# Altium schematic symbol library Chip_kz85.SchLib: 319 symbols (part 3 of 5)
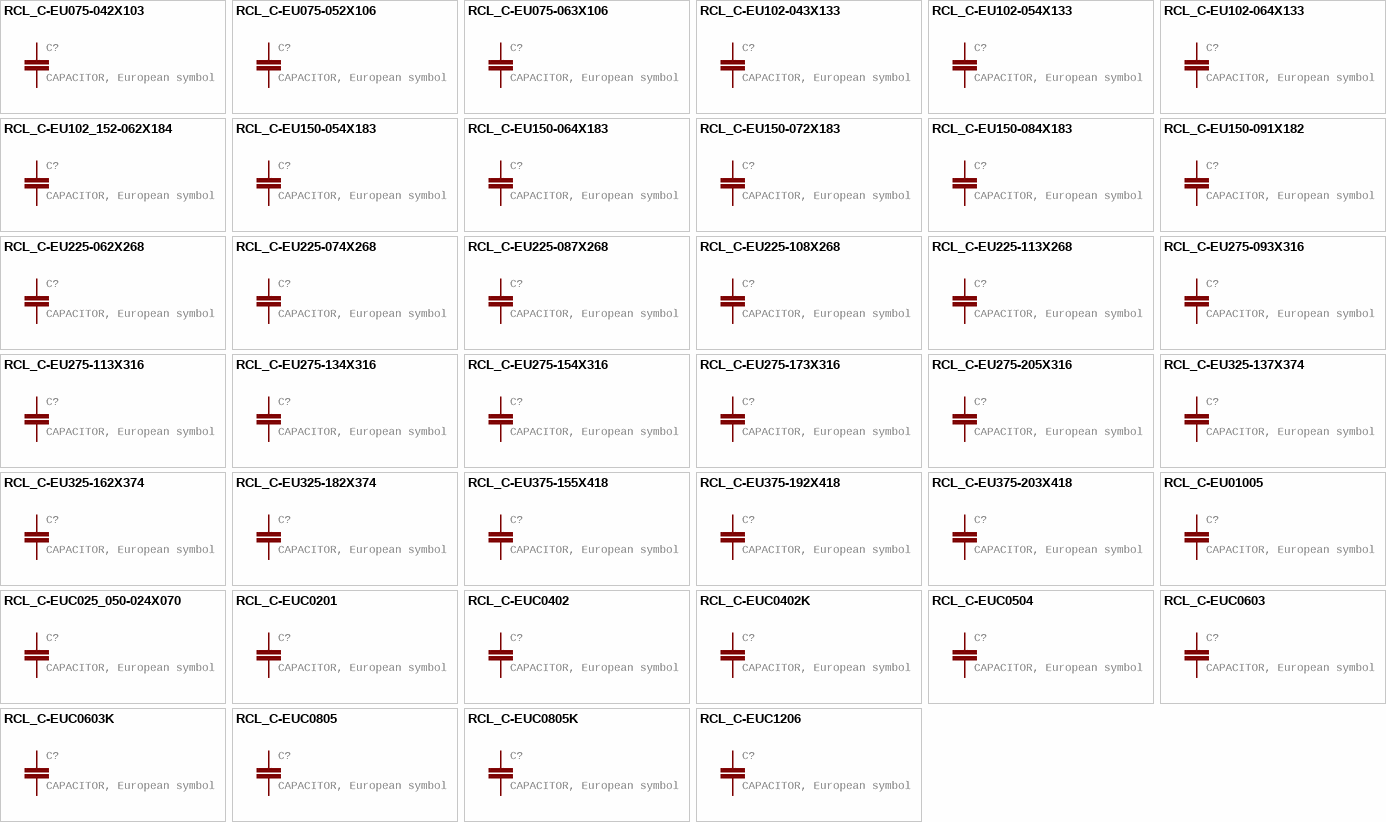
[diagram p13: symbols RCL_C-EU075-042X103 to RCL_C-EUC1206]

## RCL_C-EU325-137X374
designator C?, comment CAPACITOR, European symbol
GateName_1: G$1; SymbolName_1: RCL_C-EU; DeviceName: 325-137X374; LibraryName: AmbaSat-1v1-01-NO-solar; DeviceSetName: RCL_C-EU; Package: RCL_C325-137X374
footprint RCL_C325-137X374
pins: 1, 2

## RCL_C-EU325-162X374
designator C?, comment CAPACITOR, European symbol
GateName_1: G$1; SymbolName_1: RCL_C-EU; DeviceName: 325-162X374; LibraryName: AmbaSat-1v1-01-NO-solar; DeviceSetName: RCL_C-EU; Package: RCL_C325-162X374
footprint RCL_C325-162X374
pins: 1, 2

## RCL_C-EU325-182X374
designator C?, comment CAPACITOR, European symbol
GateName_1: G$1; SymbolName_1: RCL_C-EU; DeviceName: 325-182X374; LibraryName: AmbaSat-1v1-01-NO-solar; DeviceSetName: RCL_C-EU; Package: RCL_C325-182X374
footprint RCL_C325-182X374
pins: 1, 2

## RCL_C-EU375-155X418
designator C?, comment CAPACITOR, European symbol
GateName_1: G$1; SymbolName_1: RCL_C-EU; DeviceName: 375-155X418; LibraryName: AmbaSat-1v1-01-NO-solar; DeviceSetName: RCL_C-EU; Package: RCL_C375-155X418
footprint RCL_C375-155X418
pins: 1, 2

## RCL_C-EU375-192X418
designator C?, comment CAPACITOR, European symbol
GateName_1: G$1; SymbolName_1: RCL_C-EU; DeviceName: 375-192X418; LibraryName: AmbaSat-1v1-01-NO-solar; DeviceSetName: RCL_C-EU; Package: RCL_C375-192X418
footprint RCL_C375-192X418
pins: 1, 2

## RCL_C-EU375-203X418
designator C?, comment CAPACITOR, European symbol
GateName_1: G$1; SymbolName_1: RCL_C-EU; DeviceName: 375-203X418; LibraryName: AmbaSat-1v1-01-NO-solar; DeviceSetName: RCL_C-EU; Package: RCL_C375-203X418
footprint RCL_C375-203X418
pins: 1, 2

## RCL_C-EU01005
designator C?, comment CAPACITOR, European symbol
GateName_1: G$1; SymbolName_1: RCL_C-EU; DeviceName: 01005; LibraryName: AmbaSat-1v1-01-NO-solar; DeviceSetName: RCL_C-EU; Package: RCL_C01005
footprint RCL_C01005
pins: 1, 2

## RCL_C-EUC025_050-024X070
designator C?, comment CAPACITOR, European symbol
GateName_1: G$1; SymbolName_1: RCL_C-EU; DeviceName: C025_050-024X070; LibraryName: AmbaSat-1v1-01-NO-solar; DeviceSetName: RCL_C-EU; Package: RCL_C025_050-024X070
footprint RCL_C025_050-024X070
pins: 1, 2

## RCL_C-EUC0201
designator C?, comment CAPACITOR, European symbol
GateName_1: G$1; SymbolName_1: RCL_C-EU; DeviceName: C0201; LibraryName: AmbaSat-1v1-01-NO-solar; DeviceSetName: RCL_C-EU; Package: RCL_C0201
footprint RCL_C0201
pins: 1, 2

## RCL_C-EUC0402
designator C?, comment CAPACITOR, European symbol
GateName_1: G$1; SymbolName_1: RCL_C-EU; DeviceName: C0402; LibraryName: AmbaSat-1v1-01-NO-solar; DeviceSetName: RCL_C-EU; Package: RCL_C0402
footprint RCL_C0402
pins: 1, 2

## RCL_C-EUC0402K
designator C?, comment CAPACITOR, European symbol
GateName_1: G$1; SymbolName_1: RCL_C-EU; DeviceName: C0402K; LibraryName: AmbaSat-1v1-01-NO-solar; DeviceSetName: RCL_C-EU; Package: RCL_C0402K
footprint RCL_C0402K
pins: 1, 2

## RCL_C-EUC0504
designator C?, comment CAPACITOR, European symbol
GateName_1: G$1; SymbolName_1: RCL_C-EU; DeviceName: C0504; LibraryName: AmbaSat-1v1-01-NO-solar; DeviceSetName: RCL_C-EU; Package: RCL_C0504
footprint RCL_C0504
pins: 1, 2

## RCL_C-EUC0603
designator C?, comment CAPACITOR, European symbol
GateName_1: G$1; SymbolName_1: RCL_C-EU; DeviceName: C0603; LibraryName: AmbaSat-1v1-01-NO-solar; DeviceSetName: RCL_C-EU; Package: RCL_C0603
footprint RCL_C0603
pins: 1, 2

## RCL_C-EUC0603K
designator C?, comment CAPACITOR, European symbol
GateName_1: G$1; SymbolName_1: RCL_C-EU; DeviceName: C0603K; LibraryName: AmbaSat-1v1-01-NO-solar; DeviceSetName: RCL_C-EU; Package: RCL_C0603K
footprint RCL_C0603K
pins: 1, 2

## RCL_C-EUC0805
designator C?, comment CAPACITOR, European symbol
GateName_1: G$1; SymbolName_1: RCL_C-EU; DeviceName: C0805; LibraryName: AmbaSat-1v1-01-NO-solar; DeviceSetName: RCL_C-EU; Package: RCL_C0805
footprint RCL_C0805
pins: 1, 2

## RCL_C-EUC0805K
designator C?, comment CAPACITOR, European symbol
GateName_1: G$1; SymbolName_1: RCL_C-EU; DeviceName: C0805K; LibraryName: AmbaSat-1v1-01-NO-solar; DeviceSetName: RCL_C-EU; Package: RCL_C0805K
footprint RCL_C0805K
pins: 1, 2

## RCL_C-EUC1206
designator C?, comment CAPACITOR, European symbol
GateName_1: G$1; SymbolName_1: RCL_C-EU; DeviceName: C1206; LibraryName: AmbaSat-1v1-01-NO-solar; DeviceSetName: RCL_C-EU; Package: RCL_C1206
footprint RCL_C1206
pins: 1, 2

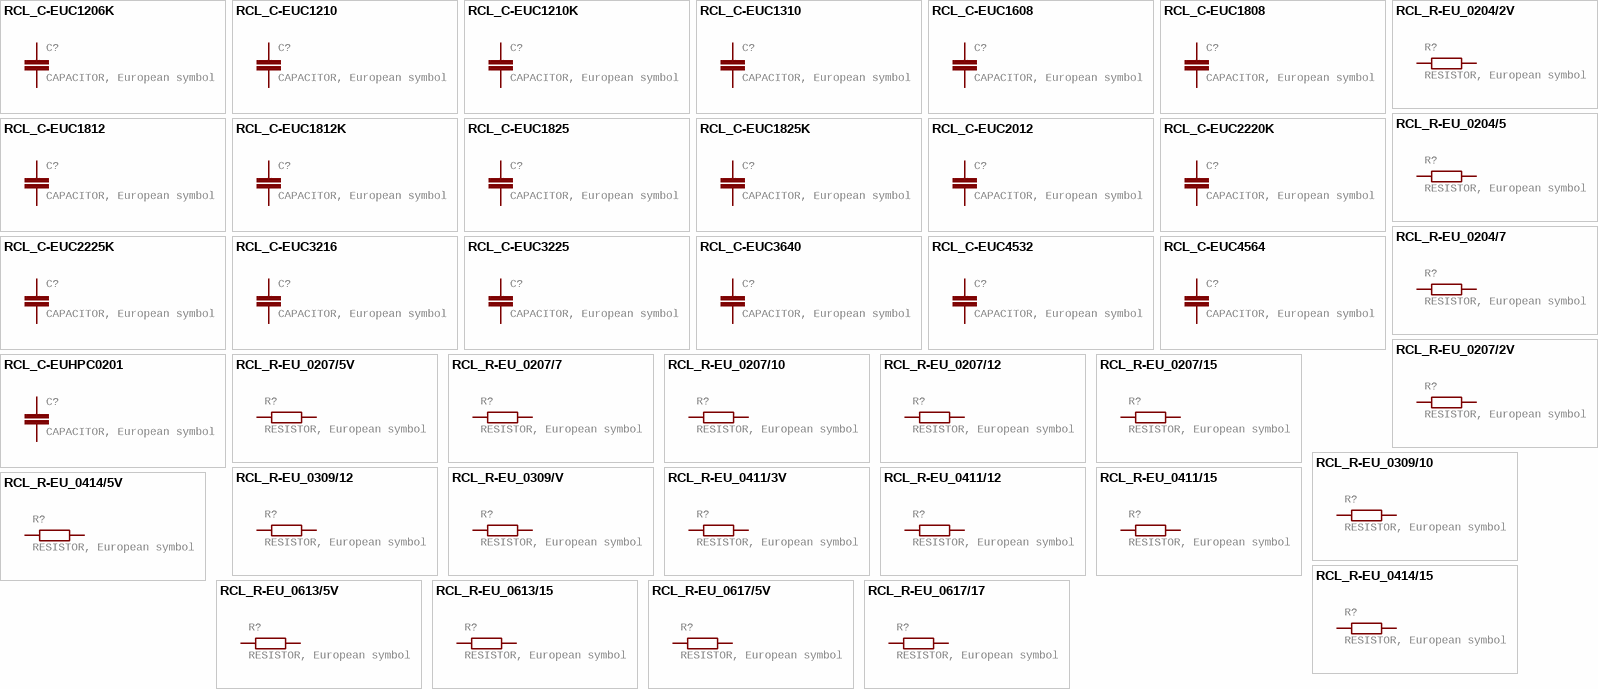
[diagram p5: symbols RCL_C-EUC1206K to RCL_R-EU_0617/17]

## RCL_C-EUC1206K
designator C?, comment CAPACITOR, European symbol
GateName_1: G$1; SymbolName_1: RCL_C-EU; DeviceName: C1206K; LibraryName: AmbaSat-1v1-01-NO-solar; DeviceSetName: RCL_C-EU; Package: RCL_C1206K
footprint RCL_C1206K
pins: 1, 2

## RCL_C-EUC1210
designator C?, comment CAPACITOR, European symbol
GateName_1: G$1; SymbolName_1: RCL_C-EU; DeviceName: C1210; LibraryName: AmbaSat-1v1-01-NO-solar; DeviceSetName: RCL_C-EU; Package: RCL_C1210
footprint RCL_C1210
pins: 1, 2

## RCL_C-EUC1210K
designator C?, comment CAPACITOR, European symbol
GateName_1: G$1; SymbolName_1: RCL_C-EU; DeviceName: C1210K; LibraryName: AmbaSat-1v1-01-NO-solar; DeviceSetName: RCL_C-EU; Package: RCL_C1210K
footprint RCL_C1210K
pins: 1, 2

## RCL_C-EUC1310
designator C?, comment CAPACITOR, European symbol
GateName_1: G$1; SymbolName_1: RCL_C-EU; DeviceName: C1310; LibraryName: AmbaSat-1v1-01-NO-solar; DeviceSetName: RCL_C-EU; Package: RCL_C1310
footprint RCL_C1310
pins: 1, 2

## RCL_C-EUC1608
designator C?, comment CAPACITOR, European symbol
GateName_1: G$1; SymbolName_1: RCL_C-EU; DeviceName: C1608; LibraryName: AmbaSat-1v1-01-NO-solar; DeviceSetName: RCL_C-EU; Package: RCL_C1608
footprint RCL_C1608
pins: 1, 2

## RCL_C-EUC1808
designator C?, comment CAPACITOR, European symbol
GateName_1: G$1; SymbolName_1: RCL_C-EU; DeviceName: C1808; LibraryName: AmbaSat-1v1-01-NO-solar; DeviceSetName: RCL_C-EU; Package: RCL_C1808
footprint RCL_C1808
pins: 1, 2

## RCL_C-EUC1812
designator C?, comment CAPACITOR, European symbol
GateName_1: G$1; SymbolName_1: RCL_C-EU; DeviceName: C1812; LibraryName: AmbaSat-1v1-01-NO-solar; DeviceSetName: RCL_C-EU; Package: RCL_C1812
footprint RCL_C1812
pins: 1, 2

## RCL_C-EUC1812K
designator C?, comment CAPACITOR, European symbol
GateName_1: G$1; SymbolName_1: RCL_C-EU; DeviceName: C1812K; LibraryName: AmbaSat-1v1-01-NO-solar; DeviceSetName: RCL_C-EU; Package: RCL_C1812K
footprint RCL_C1812K
pins: 1, 2

## RCL_C-EUC1825
designator C?, comment CAPACITOR, European symbol
GateName_1: G$1; SymbolName_1: RCL_C-EU; DeviceName: C1825; LibraryName: AmbaSat-1v1-01-NO-solar; DeviceSetName: RCL_C-EU; Package: RCL_C1825
footprint RCL_C1825
pins: 1, 2

## RCL_C-EUC1825K
designator C?, comment CAPACITOR, European symbol
GateName_1: G$1; SymbolName_1: RCL_C-EU; DeviceName: C1825K; LibraryName: AmbaSat-1v1-01-NO-solar; DeviceSetName: RCL_C-EU; Package: RCL_C1825K
footprint RCL_C1825K
pins: 1, 2

## RCL_C-EUC2012
designator C?, comment CAPACITOR, European symbol
GateName_1: G$1; SymbolName_1: RCL_C-EU; DeviceName: C2012; LibraryName: AmbaSat-1v1-01-NO-solar; DeviceSetName: RCL_C-EU; Package: RCL_C2012
footprint RCL_C2012
pins: 1, 2

## RCL_C-EUC2220K
designator C?, comment CAPACITOR, European symbol
GateName_1: G$1; SymbolName_1: RCL_C-EU; DeviceName: C2220K; LibraryName: AmbaSat-1v1-01-NO-solar; DeviceSetName: RCL_C-EU; Package: RCL_C2220K
footprint RCL_C2220K
pins: 1, 2

## RCL_C-EUC2225K
designator C?, comment CAPACITOR, European symbol
GateName_1: G$1; SymbolName_1: RCL_C-EU; DeviceName: C2225K; LibraryName: AmbaSat-1v1-01-NO-solar; DeviceSetName: RCL_C-EU; Package: RCL_C2225K
footprint RCL_C2225K
pins: 1, 2

## RCL_C-EUC3216
designator C?, comment CAPACITOR, European symbol
GateName_1: G$1; SymbolName_1: RCL_C-EU; DeviceName: C3216; LibraryName: AmbaSat-1v1-01-NO-solar; DeviceSetName: RCL_C-EU; Package: RCL_C3216
footprint RCL_C3216
pins: 1, 2

## RCL_C-EUC3225
designator C?, comment CAPACITOR, European symbol
GateName_1: G$1; SymbolName_1: RCL_C-EU; DeviceName: C3225; LibraryName: AmbaSat-1v1-01-NO-solar; DeviceSetName: RCL_C-EU; Package: RCL_C3225
footprint RCL_C3225
pins: 1, 2

## RCL_C-EUC3640
designator C?, comment CAPACITOR, European symbol
GateName_1: G$1; SymbolName_1: RCL_C-EU; DeviceName: C3640; LibraryName: AmbaSat-1v1-01-NO-solar; DeviceSetName: RCL_C-EU; Package: RCL_C3640
footprint RCL_C3640
pins: 1, 2

## RCL_C-EUC4532
designator C?, comment CAPACITOR, European symbol
GateName_1: G$1; SymbolName_1: RCL_C-EU; DeviceName: C4532; LibraryName: AmbaSat-1v1-01-NO-solar; DeviceSetName: RCL_C-EU; Package: RCL_C4532
footprint RCL_C4532
pins: 1, 2

## RCL_C-EUC4564
designator C?, comment CAPACITOR, European symbol
GateName_1: G$1; SymbolName_1: RCL_C-EU; DeviceName: C4564; LibraryName: AmbaSat-1v1-01-NO-solar; DeviceSetName: RCL_C-EU; Package: RCL_C4564
footprint RCL_C4564
pins: 1, 2

## RCL_C-EUHPC0201
designator C?, comment CAPACITOR, European symbol
GateName_1: G$1; SymbolName_1: RCL_C-EU; DeviceName: HPC0201; LibraryName: AmbaSat-1v1-01-NO-solar; DeviceSetName: RCL_C-EU; Package: RCL_HPC0201
footprint RCL_HPC0201
pins: 1, 2

## RCL_R-EU_0204/2V
designator R?, comment RESISTOR, European symbol
GateName_1: G$1; SymbolName_1: RCL_R-EU; DeviceName: 0204/2V; DeviceSetName: RCL_R-EU_; LibraryName: AmbaSat-1v1-01-NO-solar; Package: RCL_0204V
footprint RCL_0204V
pins: 1, 2

## RCL_R-EU_0204/5
designator R?, comment RESISTOR, European symbol
GateName_1: G$1; SymbolName_1: RCL_R-EU; DeviceName: 0204/5; DeviceSetName: RCL_R-EU_; LibraryName: AmbaSat-1v1-01-NO-solar; Package: RCL_0204/5
footprint RCL_0204/5
pins: 1, 2

## RCL_R-EU_0204/7
designator R?, comment RESISTOR, European symbol
GateName_1: G$1; SymbolName_1: RCL_R-EU; DeviceName: 0204/7; DeviceSetName: RCL_R-EU_; LibraryName: AmbaSat-1v1-01-NO-solar; Package: RCL_0204/7
footprint RCL_0204/7
pins: 1, 2

## RCL_R-EU_0207/2V
designator R?, comment RESISTOR, European symbol
GateName_1: G$1; SymbolName_1: RCL_R-EU; DeviceName: 0207/2V; DeviceSetName: RCL_R-EU_; LibraryName: AmbaSat-1v1-01-NO-solar; Package: RCL_0207/2V
footprint RCL_0207/2V
pins: 1, 2

## RCL_R-EU_0207/5V
designator R?, comment RESISTOR, European symbol
GateName_1: G$1; SymbolName_1: RCL_R-EU; DeviceName: 0207/5V; DeviceSetName: RCL_R-EU_; LibraryName: AmbaSat-1v1-01-NO-solar; Package: RCL_0207/5V
footprint RCL_0207/5V
pins: 1, 2

## RCL_R-EU_0207/7
designator R?, comment RESISTOR, European symbol
GateName_1: G$1; SymbolName_1: RCL_R-EU; DeviceName: 0207/7; DeviceSetName: RCL_R-EU_; LibraryName: AmbaSat-1v1-01-NO-solar; Package: RCL_0207/7
footprint RCL_0207/7
pins: 1, 2

## RCL_R-EU_0207/10
designator R?, comment RESISTOR, European symbol
GateName_1: G$1; SymbolName_1: RCL_R-EU; DeviceName: 0207/10; DeviceSetName: RCL_R-EU_; LibraryName: AmbaSat-1v1-01-NO-solar; Package: RCL_0207/10
footprint RCL_0207/10
pins: 1, 2

## RCL_R-EU_0207/12
designator R?, comment RESISTOR, European symbol
GateName_1: G$1; SymbolName_1: RCL_R-EU; DeviceName: 0207/12; DeviceSetName: RCL_R-EU_; LibraryName: AmbaSat-1v1-01-NO-solar; Package: RCL_0207/12
footprint RCL_0207/12
pins: 1, 2

## RCL_R-EU_0207/15
designator R?, comment RESISTOR, European symbol
GateName_1: G$1; SymbolName_1: RCL_R-EU; DeviceName: 0207/15; DeviceSetName: RCL_R-EU_; LibraryName: AmbaSat-1v1-01-NO-solar; Package: RCL_0207/15
footprint RCL_0207/15
pins: 1, 2

## RCL_R-EU_0309/10
designator R?, comment RESISTOR, European symbol
GateName_1: G$1; SymbolName_1: RCL_R-EU; DeviceName: 0309/10; DeviceSetName: RCL_R-EU_; LibraryName: AmbaSat-1v1-01-NO-solar; Package: RCL_0309/10
footprint RCL_0309/10
pins: 1, 2

## RCL_R-EU_0309/12
designator R?, comment RESISTOR, European symbol
GateName_1: G$1; SymbolName_1: RCL_R-EU; DeviceName: 0309/12; DeviceSetName: RCL_R-EU_; LibraryName: AmbaSat-1v1-01-NO-solar; Package: RCL_0309/12
footprint RCL_0309/12
pins: 1, 2

## RCL_R-EU_0309/V
designator R?, comment RESISTOR, European symbol
GateName_1: G$1; SymbolName_1: RCL_R-EU; DeviceName: 0309/V; DeviceSetName: RCL_R-EU_; LibraryName: AmbaSat-1v1-01-NO-solar; Package: RCL_0309V
footprint RCL_0309V
pins: 1, 2

## RCL_R-EU_0411/3V
designator R?, comment RESISTOR, European symbol
GateName_1: G$1; SymbolName_1: RCL_R-EU; DeviceName: 0411/3V; DeviceSetName: RCL_R-EU_; LibraryName: AmbaSat-1v1-01-NO-solar; Package: RCL_0411V
footprint RCL_0411V
pins: 1, 2

## RCL_R-EU_0411/12
designator R?, comment RESISTOR, European symbol
GateName_1: G$1; SymbolName_1: RCL_R-EU; DeviceName: 0411/12; DeviceSetName: RCL_R-EU_; LibraryName: AmbaSat-1v1-01-NO-solar; Package: RCL_0411/12
footprint RCL_0411/12
pins: 1, 2

## RCL_R-EU_0411/15
designator R?, comment RESISTOR, European symbol
GateName_1: G$1; SymbolName_1: RCL_R-EU; DeviceName: 0411/15; DeviceSetName: RCL_R-EU_; LibraryName: AmbaSat-1v1-01-NO-solar; Package: RCL_0411/15
footprint RCL_0411/15
pins: 1, 2

## RCL_R-EU_0414/5V
designator R?, comment RESISTOR, European symbol
GateName_1: G$1; SymbolName_1: RCL_R-EU; DeviceName: 0414/5V; DeviceSetName: RCL_R-EU_; LibraryName: AmbaSat-1v1-01-NO-solar; Package: RCL_0414V
footprint RCL_0414V
pins: 1, 2

## RCL_R-EU_0414/15
designator R?, comment RESISTOR, European symbol
GateName_1: G$1; SymbolName_1: RCL_R-EU; DeviceName: 0414/15; DeviceSetName: RCL_R-EU_; LibraryName: AmbaSat-1v1-01-NO-solar; Package: RCL_0414/15
footprint RCL_0414/15
pins: 1, 2

## RCL_R-EU_0613/5V
designator R?, comment RESISTOR, European symbol
GateName_1: G$1; SymbolName_1: RCL_R-EU; DeviceName: 0613/5V; DeviceSetName: RCL_R-EU_; LibraryName: AmbaSat-1v1-01-NO-solar; Package: RCL_P0613V
footprint RCL_P0613V
pins: 1, 2

## RCL_R-EU_0613/15
designator R?, comment RESISTOR, European symbol
GateName_1: G$1; SymbolName_1: RCL_R-EU; DeviceName: 0613/15; DeviceSetName: RCL_R-EU_; LibraryName: AmbaSat-1v1-01-NO-solar; Package: RCL_P0613/15
footprint RCL_P0613/15
pins: 1, 2

## RCL_R-EU_0617/5V
designator R?, comment RESISTOR, European symbol
GateName_1: G$1; SymbolName_1: RCL_R-EU; DeviceName: 0617/5V; DeviceSetName: RCL_R-EU_; LibraryName: AmbaSat-1v1-01-NO-solar; Package: RCL_0617V
footprint RCL_0617V
pins: 1, 2

## RCL_R-EU_0617/17
designator R?, comment RESISTOR, European symbol
GateName_1: G$1; SymbolName_1: RCL_R-EU; DeviceName: 0617/17; DeviceSetName: RCL_R-EU_; LibraryName: AmbaSat-1v1-01-NO-solar; Package: RCL_0617/17
footprint RCL_0617/17
pins: 1, 2

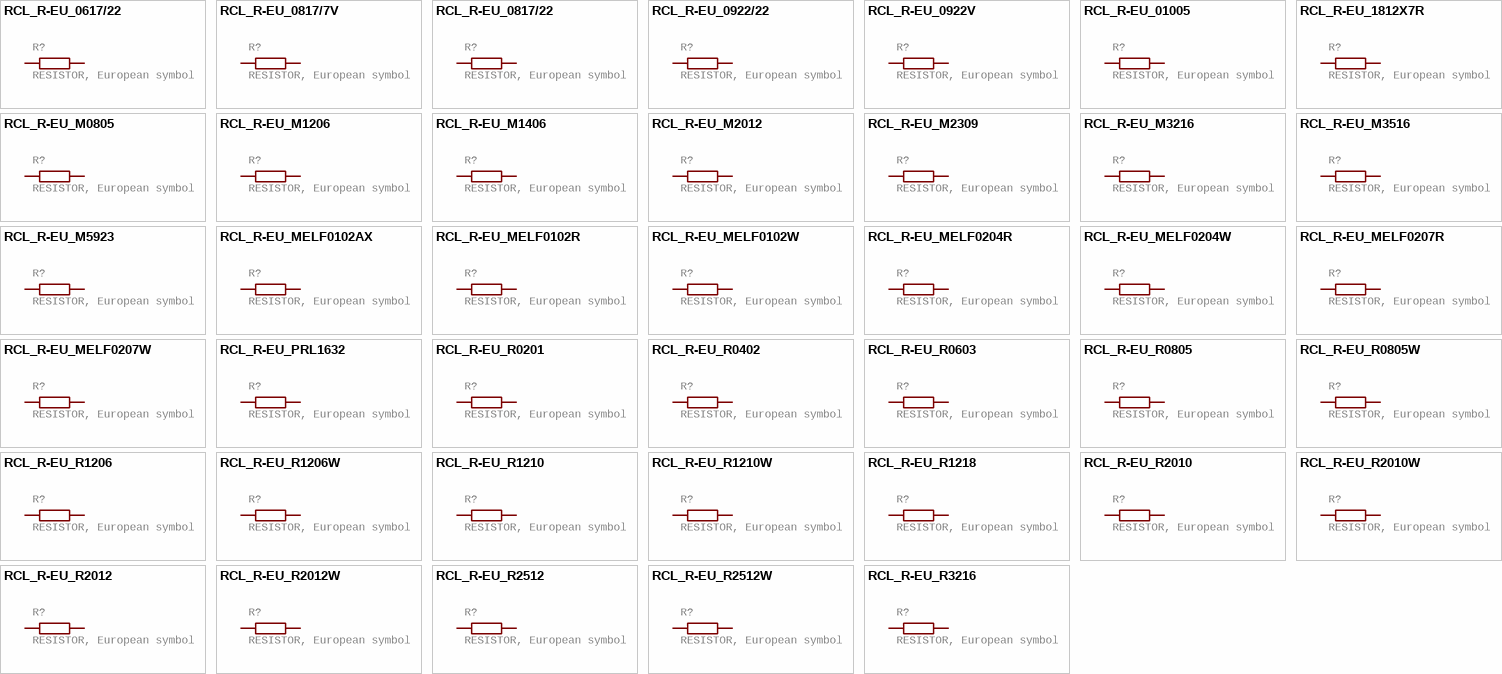
[diagram p6: symbols RCL_R-EU_0617/22 to RCL_R-EU_R3216]

## RCL_R-EU_0617/22
designator R?, comment RESISTOR, European symbol
GateName_1: G$1; SymbolName_1: RCL_R-EU; DeviceName: 0617/22; DeviceSetName: RCL_R-EU_; LibraryName: AmbaSat-1v1-01-NO-solar; Package: RCL_0617/22
footprint RCL_0617/22
pins: 1, 2

## RCL_R-EU_0817/7V
designator R?, comment RESISTOR, European symbol
GateName_1: G$1; SymbolName_1: RCL_R-EU; DeviceName: 0817/7V; DeviceSetName: RCL_R-EU_; LibraryName: AmbaSat-1v1-01-NO-solar; Package: RCL_P0817V
footprint RCL_P0817V
pins: 1, 2

## RCL_R-EU_0817/22
designator R?, comment RESISTOR, European symbol
GateName_1: G$1; SymbolName_1: RCL_R-EU; DeviceName: 0817/22; DeviceSetName: RCL_R-EU_; LibraryName: AmbaSat-1v1-01-NO-solar; Package: RCL_P0817/22
footprint RCL_P0817/22
pins: 1, 2

## RCL_R-EU_0922/22
designator R?, comment RESISTOR, European symbol
GateName_1: G$1; SymbolName_1: RCL_R-EU; DeviceName: 0922/22; DeviceSetName: RCL_R-EU_; LibraryName: AmbaSat-1v1-01-NO-solar; Package: RCL_0922/22
footprint RCL_0922/22
pins: 1, 2

## RCL_R-EU_0922V
designator R?, comment RESISTOR, European symbol
GateName_1: G$1; SymbolName_1: RCL_R-EU; DeviceName: 0922V; DeviceSetName: RCL_R-EU_; LibraryName: AmbaSat-1v1-01-NO-solar; Package: RCL_0922V
footprint RCL_0922V
pins: 1, 2

## RCL_R-EU_01005
designator R?, comment RESISTOR, European symbol
GateName_1: G$1; SymbolName_1: RCL_R-EU; DeviceName: 01005; DeviceSetName: RCL_R-EU_; LibraryName: AmbaSat-1v1-01-NO-solar; Package: RCL_R01005
footprint RCL_R01005
pins: 1, 2

## RCL_R-EU_1812X7R
designator R?, comment RESISTOR, European symbol
GateName_1: G$1; SymbolName_1: RCL_R-EU; DeviceName: 1812X7R; DeviceSetName: RCL_R-EU_; LibraryName: AmbaSat-1v1-01-NO-solar; Package: RCL_1812X7R
footprint RCL_1812X7R
pins: 1, 2

## RCL_R-EU_M0805
designator R?, comment RESISTOR, European symbol
GateName_1: G$1; SymbolName_1: RCL_R-EU; DeviceName: M0805; DeviceSetName: RCL_R-EU_; LibraryName: AmbaSat-1v1-01-NO-solar; Package: RCL_M0805
footprint RCL_M0805
pins: 1, 2

## RCL_R-EU_M1206
designator R?, comment RESISTOR, European symbol
GateName_1: G$1; SymbolName_1: RCL_R-EU; DeviceName: M1206; DeviceSetName: RCL_R-EU_; LibraryName: AmbaSat-1v1-01-NO-solar; Package: RCL_M1206
footprint RCL_M1206
pins: 1, 2

## RCL_R-EU_M1406
designator R?, comment RESISTOR, European symbol
GateName_1: G$1; SymbolName_1: RCL_R-EU; DeviceName: M1406; DeviceSetName: RCL_R-EU_; LibraryName: AmbaSat-1v1-01-NO-solar; Package: RCL_M1406
footprint RCL_M1406
pins: 1, 2

## RCL_R-EU_M2012
designator R?, comment RESISTOR, European symbol
GateName_1: G$1; SymbolName_1: RCL_R-EU; DeviceName: M2012; DeviceSetName: RCL_R-EU_; LibraryName: AmbaSat-1v1-01-NO-solar; Package: RCL_M2012
footprint RCL_M2012
pins: 1, 2

## RCL_R-EU_M2309
designator R?, comment RESISTOR, European symbol
GateName_1: G$1; SymbolName_1: RCL_R-EU; DeviceName: M2309; DeviceSetName: RCL_R-EU_; LibraryName: AmbaSat-1v1-01-NO-solar; Package: RCL_M2309
footprint RCL_M2309
pins: 1, 2

## RCL_R-EU_M3216
designator R?, comment RESISTOR, European symbol
GateName_1: G$1; SymbolName_1: RCL_R-EU; DeviceName: M3216; DeviceSetName: RCL_R-EU_; LibraryName: AmbaSat-1v1-01-NO-solar; Package: RCL_M3216
footprint RCL_M3216
pins: 1, 2

## RCL_R-EU_M3516
designator R?, comment RESISTOR, European symbol
GateName_1: G$1; SymbolName_1: RCL_R-EU; DeviceName: M3516; DeviceSetName: RCL_R-EU_; LibraryName: AmbaSat-1v1-01-NO-solar; Package: RCL_M3516
footprint RCL_M3516
pins: 1, 2

## RCL_R-EU_M5923
designator R?, comment RESISTOR, European symbol
GateName_1: G$1; SymbolName_1: RCL_R-EU; DeviceName: M5923; DeviceSetName: RCL_R-EU_; LibraryName: AmbaSat-1v1-01-NO-solar; Package: RCL_M5923
footprint RCL_M5923
pins: 1, 2

## RCL_R-EU_MELF0102AX
designator R?, comment RESISTOR, European symbol
GateName_1: G$1; SymbolName_1: RCL_R-EU; DeviceName: MELF0102AX; DeviceSetName: RCL_R-EU_; LibraryName: AmbaSat-1v1-01-NO-solar; Package: RCL_MINI_MELF-0102AX
footprint RCL_MINI_MELF-0102AX
pins: 1, 2

## RCL_R-EU_MELF0102R
designator R?, comment RESISTOR, European symbol
GateName_1: G$1; SymbolName_1: RCL_R-EU; DeviceName: MELF0102R; DeviceSetName: RCL_R-EU_; LibraryName: AmbaSat-1v1-01-NO-solar; Package: RCL_MINI_MELF-0102R
footprint RCL_MINI_MELF-0102R
pins: 1, 2

## RCL_R-EU_MELF0102W
designator R?, comment RESISTOR, European symbol
GateName_1: G$1; SymbolName_1: RCL_R-EU; DeviceName: MELF0102W; DeviceSetName: RCL_R-EU_; LibraryName: AmbaSat-1v1-01-NO-solar; Package: RCL_MINI_MELF-0102W
footprint RCL_MINI_MELF-0102W
pins: 1, 2

## RCL_R-EU_MELF0204R
designator R?, comment RESISTOR, European symbol
GateName_1: G$1; SymbolName_1: RCL_R-EU; DeviceName: MELF0204R; DeviceSetName: RCL_R-EU_; LibraryName: AmbaSat-1v1-01-NO-solar; Package: RCL_MINI_MELF-0204R
footprint RCL_MINI_MELF-0204R
pins: 1, 2

## RCL_R-EU_MELF0204W
designator R?, comment RESISTOR, European symbol
GateName_1: G$1; SymbolName_1: RCL_R-EU; DeviceName: MELF0204W; DeviceSetName: RCL_R-EU_; LibraryName: AmbaSat-1v1-01-NO-solar; Package: RCL_MINI_MELF-0204W
footprint RCL_MINI_MELF-0204W
pins: 1, 2

## RCL_R-EU_MELF0207R
designator R?, comment RESISTOR, European symbol
GateName_1: G$1; SymbolName_1: RCL_R-EU; DeviceName: MELF0207R; DeviceSetName: RCL_R-EU_; LibraryName: AmbaSat-1v1-01-NO-solar; Package: RCL_MINI_MELF-0207R
footprint RCL_MINI_MELF-0207R
pins: 1, 2

## RCL_R-EU_MELF0207W
designator R?, comment RESISTOR, European symbol
GateName_1: G$1; SymbolName_1: RCL_R-EU; DeviceName: MELF0207W; DeviceSetName: RCL_R-EU_; LibraryName: AmbaSat-1v1-01-NO-solar; Package: RCL_MINI_MELF-0207W
footprint RCL_MINI_MELF-0207W
pins: 1, 2

## RCL_R-EU_PRL1632
designator R?, comment RESISTOR, European symbol
GateName_1: G$1; SymbolName_1: RCL_R-EU; DeviceName: PRL1632; DeviceSetName: RCL_R-EU_; LibraryName: AmbaSat-1v1-01-NO-solar; Package: RCL_PRL1632
footprint RCL_PRL1632
pins: 1, 2

## RCL_R-EU_R0201
designator R?, comment RESISTOR, European symbol
GateName_1: G$1; SymbolName_1: RCL_R-EU; DeviceName: R0201; DeviceSetName: RCL_R-EU_; LibraryName: AmbaSat-1v1-01-NO-solar; Package: RCL_R0201
footprint RCL_R0201
pins: 1, 2

## RCL_R-EU_R0402
designator R?, comment RESISTOR, European symbol
GateName_1: G$1; SymbolName_1: RCL_R-EU; DeviceName: R0402; DeviceSetName: RCL_R-EU_; LibraryName: AmbaSat-1v1-01-NO-solar; Package: RCL_R0402
footprint RCL_R0402
pins: 1, 2

## RCL_R-EU_R0603
designator R?, comment RESISTOR, European symbol
GateName_1: G$1; SymbolName_1: RCL_R-EU; DeviceName: R0603; DeviceSetName: RCL_R-EU_; LibraryName: AmbaSat-1v1-01-NO-solar; Package: RCL_R0603
footprint RCL_R0603
pins: 1, 2

## RCL_R-EU_R0805
designator R?, comment RESISTOR, European symbol
GateName_1: G$1; SymbolName_1: RCL_R-EU; DeviceName: R0805; DeviceSetName: RCL_R-EU_; LibraryName: AmbaSat-1v1-01-NO-solar; Package: RCL_R0805
footprint RCL_R0805
pins: 1, 2

## RCL_R-EU_R0805W
designator R?, comment RESISTOR, European symbol
GateName_1: G$1; SymbolName_1: RCL_R-EU; DeviceName: R0805W; DeviceSetName: RCL_R-EU_; LibraryName: AmbaSat-1v1-01-NO-solar; Package: RCL_R0805W
footprint RCL_R0805W
pins: 1, 2

## RCL_R-EU_R1206
designator R?, comment RESISTOR, European symbol
GateName_1: G$1; SymbolName_1: RCL_R-EU; DeviceName: R1206; DeviceSetName: RCL_R-EU_; LibraryName: AmbaSat-1v1-01-NO-solar; Package: RCL_R1206
footprint RCL_R1206
pins: 1, 2

## RCL_R-EU_R1206W
designator R?, comment RESISTOR, European symbol
GateName_1: G$1; SymbolName_1: RCL_R-EU; DeviceName: R1206W; DeviceSetName: RCL_R-EU_; LibraryName: AmbaSat-1v1-01-NO-solar; Package: RCL_R1206W
footprint RCL_R1206W
pins: 1, 2

## RCL_R-EU_R1210
designator R?, comment RESISTOR, European symbol
GateName_1: G$1; SymbolName_1: RCL_R-EU; DeviceName: R1210; DeviceSetName: RCL_R-EU_; LibraryName: AmbaSat-1v1-01-NO-solar; Package: RCL_R1210
footprint RCL_R1210
pins: 1, 2

## RCL_R-EU_R1210W
designator R?, comment RESISTOR, European symbol
GateName_1: G$1; SymbolName_1: RCL_R-EU; DeviceName: R1210W; DeviceSetName: RCL_R-EU_; LibraryName: AmbaSat-1v1-01-NO-solar; Package: RCL_R1210W
footprint RCL_R1210W
pins: 1, 2

## RCL_R-EU_R1218
designator R?, comment RESISTOR, European symbol
GateName_1: G$1; SymbolName_1: RCL_R-EU; DeviceName: R1218; DeviceSetName: RCL_R-EU_; LibraryName: AmbaSat-1v1-01-NO-solar; Package: RCL_R1218
footprint RCL_R1218
pins: 1, 2

## RCL_R-EU_R2010
designator R?, comment RESISTOR, European symbol
GateName_1: G$1; SymbolName_1: RCL_R-EU; DeviceName: R2010; DeviceSetName: RCL_R-EU_; LibraryName: AmbaSat-1v1-01-NO-solar; Package: RCL_R2010
footprint RCL_R2010
pins: 1, 2

## RCL_R-EU_R2010W
designator R?, comment RESISTOR, European symbol
GateName_1: G$1; SymbolName_1: RCL_R-EU; DeviceName: R2010W; DeviceSetName: RCL_R-EU_; LibraryName: AmbaSat-1v1-01-NO-solar; Package: RCL_R2010W
footprint RCL_R2010W
pins: 1, 2

## RCL_R-EU_R2012
designator R?, comment RESISTOR, European symbol
GateName_1: G$1; SymbolName_1: RCL_R-EU; DeviceName: R2012; DeviceSetName: RCL_R-EU_; LibraryName: AmbaSat-1v1-01-NO-solar; Package: RCL_R2012
footprint RCL_R2012
pins: 1, 2

## RCL_R-EU_R2012W
designator R?, comment RESISTOR, European symbol
GateName_1: G$1; SymbolName_1: RCL_R-EU; DeviceName: R2012W; DeviceSetName: RCL_R-EU_; LibraryName: AmbaSat-1v1-01-NO-solar; Package: RCL_R2012W
footprint RCL_R2012W
pins: 1, 2

## RCL_R-EU_R2512
designator R?, comment RESISTOR, European symbol
GateName_1: G$1; SymbolName_1: RCL_R-EU; DeviceName: R2512; DeviceSetName: RCL_R-EU_; LibraryName: AmbaSat-1v1-01-NO-solar; Package: RCL_R2512
footprint RCL_R2512
pins: 1, 2

## RCL_R-EU_R2512W
designator R?, comment RESISTOR, European symbol
GateName_1: G$1; SymbolName_1: RCL_R-EU; DeviceName: R2512W; DeviceSetName: RCL_R-EU_; LibraryName: AmbaSat-1v1-01-NO-solar; Package: RCL_R2512W
footprint RCL_R2512W
pins: 1, 2

## RCL_R-EU_R3216
designator R?, comment RESISTOR, European symbol
GateName_1: G$1; SymbolName_1: RCL_R-EU; DeviceName: R3216; DeviceSetName: RCL_R-EU_; LibraryName: AmbaSat-1v1-01-NO-solar; Package: RCL_R3216
footprint RCL_R3216
pins: 1, 2

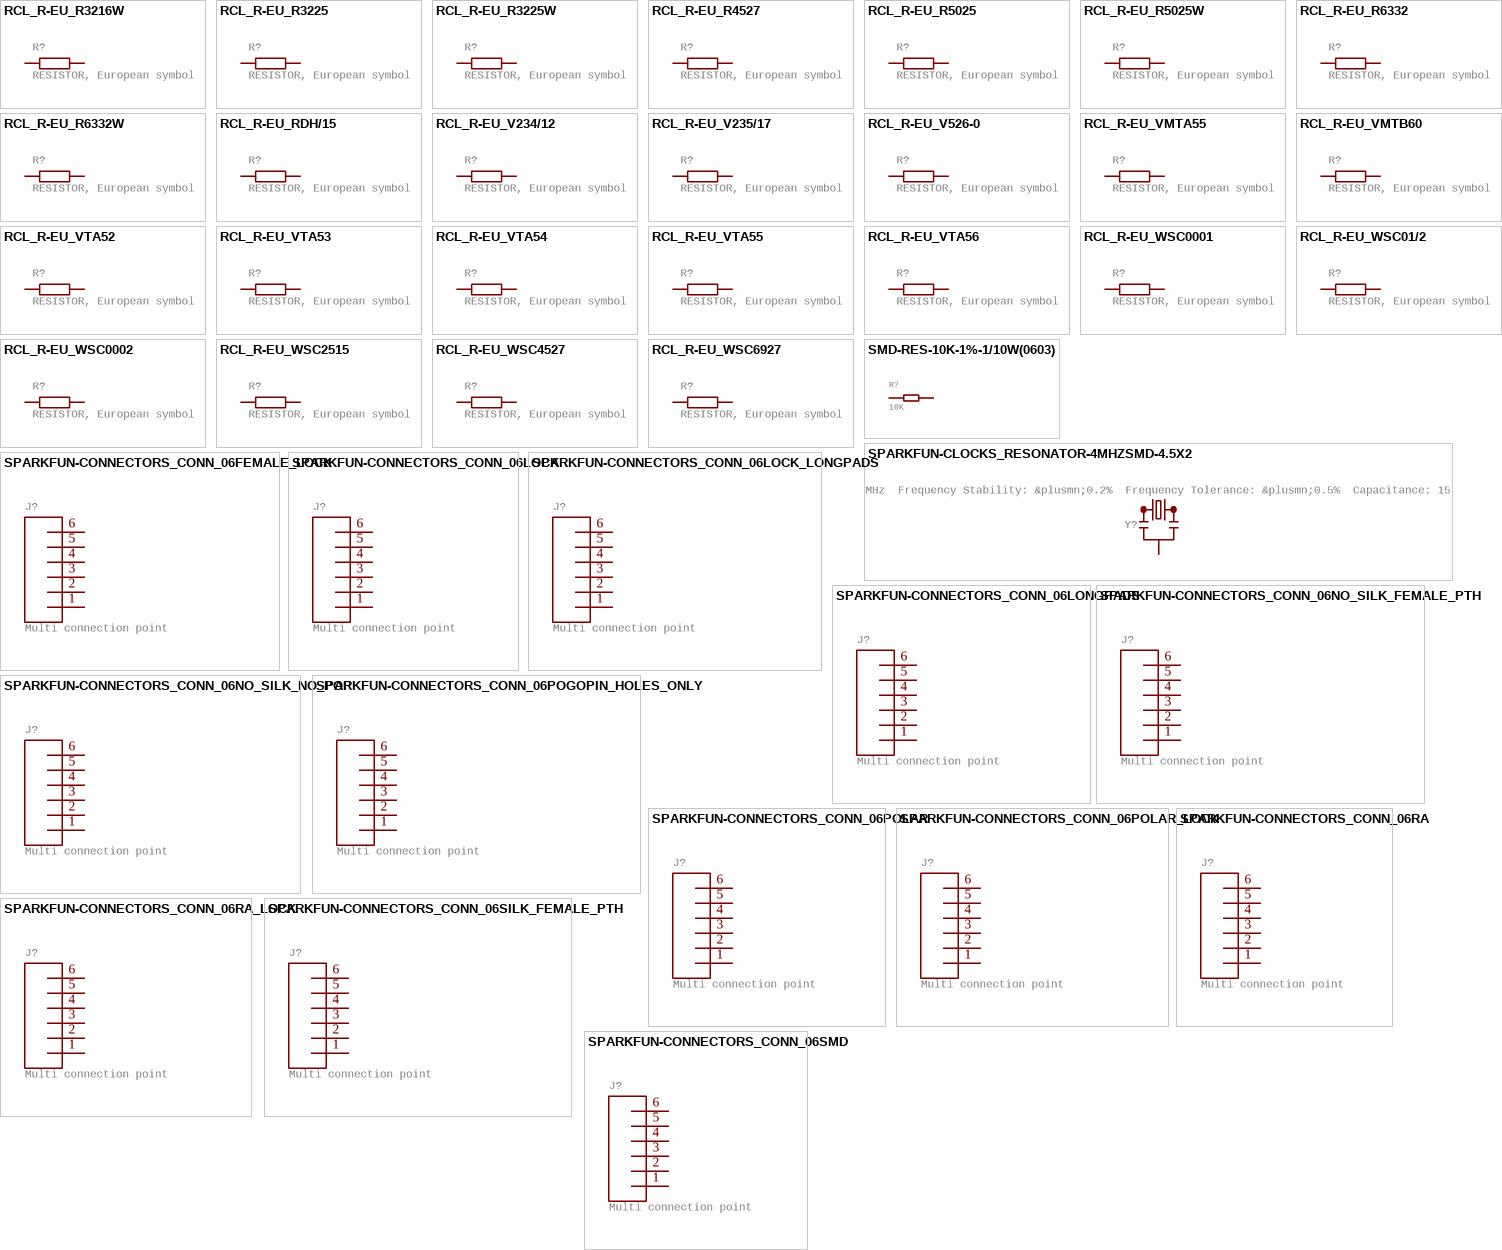
[diagram p7: symbols RCL_R-EU_R3216W to SPARKFUN-CONNECTORS_CONN_06SMD]

## RCL_R-EU_R3216W
designator R?, comment RESISTOR, European symbol
GateName_1: G$1; SymbolName_1: RCL_R-EU; DeviceName: R3216W; DeviceSetName: RCL_R-EU_; LibraryName: AmbaSat-1v1-01-NO-solar; Package: RCL_R3216W
footprint RCL_R3216W
pins: 1, 2

## RCL_R-EU_R3225
designator R?, comment RESISTOR, European symbol
GateName_1: G$1; SymbolName_1: RCL_R-EU; DeviceName: R3225; DeviceSetName: RCL_R-EU_; LibraryName: AmbaSat-1v1-01-NO-solar; Package: RCL_R3225
footprint RCL_R3225
pins: 1, 2

## RCL_R-EU_R3225W
designator R?, comment RESISTOR, European symbol
GateName_1: G$1; SymbolName_1: RCL_R-EU; DeviceName: R3225W; DeviceSetName: RCL_R-EU_; LibraryName: AmbaSat-1v1-01-NO-solar; Package: RCL_R3225W
footprint RCL_R3225W
pins: 1, 2

## RCL_R-EU_R4527
designator R?, comment RESISTOR, European symbol
GateName_1: G$1; SymbolName_1: RCL_R-EU; DeviceName: R4527; DeviceSetName: RCL_R-EU_; LibraryName: AmbaSat-1v1-01-NO-solar; Package: RCL_R4527
footprint RCL_R4527
pins: 1, 2

## RCL_R-EU_R5025
designator R?, comment RESISTOR, European symbol
GateName_1: G$1; SymbolName_1: RCL_R-EU; DeviceName: R5025; DeviceSetName: RCL_R-EU_; LibraryName: AmbaSat-1v1-01-NO-solar; Package: RCL_R5025
footprint RCL_R5025
pins: 1, 2

## RCL_R-EU_R5025W
designator R?, comment RESISTOR, European symbol
GateName_1: G$1; SymbolName_1: RCL_R-EU; DeviceName: R5025W; DeviceSetName: RCL_R-EU_; LibraryName: AmbaSat-1v1-01-NO-solar; Package: RCL_R5025W
footprint RCL_R5025W
pins: 1, 2

## RCL_R-EU_R6332
designator R?, comment RESISTOR, European symbol
GateName_1: G$1; SymbolName_1: RCL_R-EU; DeviceName: R6332; DeviceSetName: RCL_R-EU_; LibraryName: AmbaSat-1v1-01-NO-solar; Package: RCL_R6332
footprint RCL_R6332
pins: 1, 2

## RCL_R-EU_R6332W
designator R?, comment RESISTOR, European symbol
GateName_1: G$1; SymbolName_1: RCL_R-EU; DeviceName: R6332W; DeviceSetName: RCL_R-EU_; LibraryName: AmbaSat-1v1-01-NO-solar; Package: RCL_R6332W
footprint RCL_R6332W
pins: 1, 2

## RCL_R-EU_RDH/15
designator R?, comment RESISTOR, European symbol
GateName_1: G$1; SymbolName_1: RCL_R-EU; DeviceName: RDH/15; DeviceSetName: RCL_R-EU_; LibraryName: AmbaSat-1v1-01-NO-solar; Package: RCL_RDH/15
footprint RCL_RDH/15
pins: 1, 2

## RCL_R-EU_V234/12
designator R?, comment RESISTOR, European symbol
GateName_1: G$1; SymbolName_1: RCL_R-EU; DeviceName: V234/12; DeviceSetName: RCL_R-EU_; LibraryName: AmbaSat-1v1-01-NO-solar; Package: RCL_V234/12
footprint RCL_V234/12
pins: 1, 2

## RCL_R-EU_V235/17
designator R?, comment RESISTOR, European symbol
GateName_1: G$1; SymbolName_1: RCL_R-EU; DeviceName: V235/17; DeviceSetName: RCL_R-EU_; LibraryName: AmbaSat-1v1-01-NO-solar; Package: RCL_V235/17
footprint RCL_V235/17
pins: 1, 2

## RCL_R-EU_V526-0
designator R?, comment RESISTOR, European symbol
GateName_1: G$1; SymbolName_1: RCL_R-EU; DeviceName: V526-0; DeviceSetName: RCL_R-EU_; LibraryName: AmbaSat-1v1-01-NO-solar; Package: RCL_V526-0
footprint RCL_V526-0
pins: 1, 2

## RCL_R-EU_VMTA55
designator R?, comment RESISTOR, European symbol
GateName_1: G$1; SymbolName_1: RCL_R-EU; DeviceName: VMTA55; DeviceSetName: RCL_R-EU_; LibraryName: AmbaSat-1v1-01-NO-solar; Package: RCL_VMTA55
footprint RCL_VMTA55
pins: 1, 2

## RCL_R-EU_VMTB60
designator R?, comment RESISTOR, European symbol
GateName_1: G$1; SymbolName_1: RCL_R-EU; DeviceName: VMTB60; DeviceSetName: RCL_R-EU_; LibraryName: AmbaSat-1v1-01-NO-solar; Package: RCL_VMTB60
footprint RCL_VMTB60
pins: 1, 2

## RCL_R-EU_VTA52
designator R?, comment RESISTOR, European symbol
GateName_1: G$1; SymbolName_1: RCL_R-EU; DeviceName: VTA52; DeviceSetName: RCL_R-EU_; LibraryName: AmbaSat-1v1-01-NO-solar; Package: RCL_VTA52
footprint RCL_VTA52
pins: 1, 2

## RCL_R-EU_VTA53
designator R?, comment RESISTOR, European symbol
GateName_1: G$1; SymbolName_1: RCL_R-EU; DeviceName: VTA53; DeviceSetName: RCL_R-EU_; LibraryName: AmbaSat-1v1-01-NO-solar; Package: RCL_VTA53
footprint RCL_VTA53
pins: 1, 2

## RCL_R-EU_VTA54
designator R?, comment RESISTOR, European symbol
GateName_1: G$1; SymbolName_1: RCL_R-EU; DeviceName: VTA54; DeviceSetName: RCL_R-EU_; LibraryName: AmbaSat-1v1-01-NO-solar; Package: RCL_VTA54
footprint RCL_VTA54
pins: 1, 2

## RCL_R-EU_VTA55
designator R?, comment RESISTOR, European symbol
GateName_1: G$1; SymbolName_1: RCL_R-EU; DeviceName: VTA55; DeviceSetName: RCL_R-EU_; LibraryName: AmbaSat-1v1-01-NO-solar; Package: RCL_VTA55
footprint RCL_VTA55
pins: 1, 2

## RCL_R-EU_VTA56
designator R?, comment RESISTOR, European symbol
GateName_1: G$1; SymbolName_1: RCL_R-EU; DeviceName: VTA56; DeviceSetName: RCL_R-EU_; LibraryName: AmbaSat-1v1-01-NO-solar; Package: RCL_VTA56
footprint RCL_VTA56
pins: 1, 2

## RCL_R-EU_WSC0001
designator R?, comment RESISTOR, European symbol
GateName_1: G$1; SymbolName_1: RCL_R-EU; DeviceName: WSC0001; DeviceSetName: RCL_R-EU_; LibraryName: AmbaSat-1v1-01-NO-solar; Package: RCL_WSC0001
footprint RCL_WSC0001
pins: 1, 2

## RCL_R-EU_WSC01/2
designator R?, comment RESISTOR, European symbol
GateName_1: G$1; SymbolName_1: RCL_R-EU; DeviceName: WSC01/2; DeviceSetName: RCL_R-EU_; LibraryName: AmbaSat-1v1-01-NO-solar; Package: RCL_WSC01/2
footprint RCL_WSC01/2
pins: 1, 2

## RCL_R-EU_WSC0002
designator R?, comment RESISTOR, European symbol
GateName_1: G$1; SymbolName_1: RCL_R-EU; DeviceName: WSC0002; DeviceSetName: RCL_R-EU_; LibraryName: AmbaSat-1v1-01-NO-solar; Package: RCL_WSC0002
footprint RCL_WSC0002
pins: 1, 2

## RCL_R-EU_WSC2515
designator R?, comment RESISTOR, European symbol
GateName_1: G$1; SymbolName_1: RCL_R-EU; DeviceName: WSC2515; DeviceSetName: RCL_R-EU_; LibraryName: AmbaSat-1v1-01-NO-solar; Package: RCL_WSC2515
footprint RCL_WSC2515
pins: 1, 2

## RCL_R-EU_WSC4527
designator R?, comment RESISTOR, European symbol
GateName_1: G$1; SymbolName_1: RCL_R-EU; DeviceName: WSC4527; DeviceSetName: RCL_R-EU_; LibraryName: AmbaSat-1v1-01-NO-solar; Package: RCL_WSC4527
footprint RCL_WSC4527
pins: 1, 2

## RCL_R-EU_WSC6927
designator R?, comment RESISTOR, European symbol
GateName_1: G$1; SymbolName_1: RCL_R-EU; DeviceName: WSC6927; DeviceSetName: RCL_R-EU_; LibraryName: AmbaSat-1v1-01-NO-solar; Package: RCL_WSC6927
footprint RCL_WSC6927
pins: 1, 2

## SMD-RES-10K-1%-1/10W(0603)
designator R?, comment 10K
301010299; MPN: RC0603FR-0710KL; GateName_1: G$1; SymbolName_1: RES; DeviceSetName: SMD-RES-10K-1%-1/10W(0603); LibraryName: Seeed-Resistor
footprint R0603
pins: 1, 2

## SPARKFUN-CLOCKS_RESONATOR-4MHZSMD-4.5X2
designator Y?, comment 4MHz Resonator    Digikey Example Frequency: 4MHz  Frequency Stability: &plusmn;0.2%  Frequency Tolerance: &plusmn;0.5%  Capacitance: 15pF       SparkFun Products SparkFun BadgerHack
GateName_1: G$1; SymbolName_1: SPARKFUN-CLOCKS_RESONATOR; DeviceName: SMD-4.5X2; DeviceSetName: SPARKFUN-CLOCKS_RESONATOR-4MHZ; PROD_ID: XTAL-12492; LibraryName: AmbaSat-1v1-01-NO-solar; Package: SPARKFUN-CLOCKS_RESONATOR-SMD-4.5X2.0
footprint SPARKFUN-CLOCKS_RESONATOR-SMD-4.5X2.0
pins: 1, 2, 3

## SPARKFUN-CONNECTORS_CONN_06FEMALE_LOCK
designator J?, comment Multi connection point. Often used as Generic Header-pin footprint for 0.1 inch spaced/style header connections    On any of the 0.1 inch spaced packages, you can populate with these:  Break Away Headers - Straight (PRT-00116)   Break Away Male Headers - Right Angle (PRT-00553)   Female Headers (PRT-00115)   Break Away Headers - Machine Pin (PRT-00117)   Break Away Female Headers - Swiss Machine Pin (PRT-00743)   Arduino Stackable Header - 6 Pin (PRT-09280)        For SCREWTERMINALS and SPRING TERMINALS visit here:  Screw Terimnals on SparkFun.com (5mm/3.5mm/2.54mm spacing)       This device is also useful as a general connection point to wire up your design to another part of your project. Our various solder wires solder well into these plated through hole pads.  Hook-Up Wire - Assortment (Stranded, 22 AWG) (PRT-11375)   Hook-Up Wire - Assortment (Solid Core, 22 AWG) (PRT-11367)   View the entire wire category on our website here
GateName_1: G$1; SymbolName_1: SPARKFUN-CONNECTORS_CONN_06; DeviceName: FEMALE_LOCK; LibraryName: AmbaSat-1v1-01-NO-solar; DeviceSetName: SPARKFUN-CONNECTORS_CONN_06; Package: SPARKFUN-CONNECTORS_1X06_FEMALE_LOCK.010
footprint SPARKFUN-CONNECTORS_1X06_FEMALE_LOCK.010
pins: 1, 2, 3, 4, 5, 6

## SPARKFUN-CONNECTORS_CONN_06LOCK
designator J?, comment Multi connection point. Often used as Generic Header-pin footprint for 0.1 inch spaced/style header connections    On any of the 0.1 inch spaced packages, you can populate with these:  Break Away Headers - Straight (PRT-00116)   Break Away Male Headers - Right Angle (PRT-00553)   Female Headers (PRT-00115)   Break Away Headers - Machine Pin (PRT-00117)   Break Away Female Headers - Swiss Machine Pin (PRT-00743)   Arduino Stackable Header - 6 Pin (PRT-09280)        For SCREWTERMINALS and SPRING TERMINALS visit here:  Screw Terimnals on SparkFun.com (5mm/3.5mm/2.54mm spacing)       This device is also useful as a general connection point to wire up your design to another part of your project. Our various solder wires solder well into these plated through hole pads.  Hook-Up Wire - Assortment (Stranded, 22 AWG) (PRT-11375)   Hook-Up Wire - Assortment (Solid Core, 22 AWG) (PRT-11367)   View the entire wire category on our website here
GateName_1: G$1; SymbolName_1: SPARKFUN-CONNECTORS_CONN_06; DeviceName: LOCK; LibraryName: AmbaSat-1v1-01-NO-solar; DeviceSetName: SPARKFUN-CONNECTORS_CONN_06; Package: SPARKFUN-CONNECTORS_1X06_LOCK
footprint SPARKFUN-CONNECTORS_1X06_LOCK
pins: 1, 2, 3, 4, 5, 6

## SPARKFUN-CONNECTORS_CONN_06LOCK_LONGPADS
designator J?, comment Multi connection point. Often used as Generic Header-pin footprint for 0.1 inch spaced/style header connections    On any of the 0.1 inch spaced packages, you can populate with these:  Break Away Headers - Straight (PRT-00116)   Break Away Male Headers - Right Angle (PRT-00553)   Female Headers (PRT-00115)   Break Away Headers - Machine Pin (PRT-00117)   Break Away Female Headers - Swiss Machine Pin (PRT-00743)   Arduino Stackable Header - 6 Pin (PRT-09280)        For SCREWTERMINALS and SPRING TERMINALS visit here:  Screw Terimnals on SparkFun.com (5mm/3.5mm/2.54mm spacing)       This device is also useful as a general connection point to wire up your design to another part of your project. Our various solder wires solder well into these plated through hole pads.  Hook-Up Wire - Assortment (Stranded, 22 AWG) (PRT-11375)   Hook-Up Wire - Assortment (Solid Core, 22 AWG) (PRT-11367)   View the entire wire category on our website here
GateName_1: G$1; SymbolName_1: SPARKFUN-CONNECTORS_CONN_06; DeviceName: LOCK_LONGPADS; LibraryName: AmbaSat-1v1-01-NO-solar; DeviceSetName: SPARKFUN-CONNECTORS_CONN_06; Package: SPARKFUN-CONNECTORS_1X06_LOCK_LONGPADS
footprint SPARKFUN-CONNECTORS_1X06_LOCK_LONGPADS
pins: 1, 2, 3, 4, 5, 6

## SPARKFUN-CONNECTORS_CONN_06LONGPADS
designator J?, comment Multi connection point. Often used as Generic Header-pin footprint for 0.1 inch spaced/style header connections    On any of the 0.1 inch spaced packages, you can populate with these:  Break Away Headers - Straight (PRT-00116)   Break Away Male Headers - Right Angle (PRT-00553)   Female Headers (PRT-00115)   Break Away Headers - Machine Pin (PRT-00117)   Break Away Female Headers - Swiss Machine Pin (PRT-00743)   Arduino Stackable Header - 6 Pin (PRT-09280)        For SCREWTERMINALS and SPRING TERMINALS visit here:  Screw Terimnals on SparkFun.com (5mm/3.5mm/2.54mm spacing)       This device is also useful as a general connection point to wire up your design to another part of your project. Our various solder wires solder well into these plated through hole pads.  Hook-Up Wire - Assortment (Stranded, 22 AWG) (PRT-11375)   Hook-Up Wire - Assortment (Solid Core, 22 AWG) (PRT-11367)   View the entire wire category on our website here
GateName_1: G$1; SymbolName_1: SPARKFUN-CONNECTORS_CONN_06; DeviceName: LONGPADS; LibraryName: AmbaSat-1v1-01-NO-solar; DeviceSetName: SPARKFUN-CONNECTORS_CONN_06; Package: SPARKFUN-CONNECTORS_1X06_LONGPADS
footprint SPARKFUN-CONNECTORS_1X06_LONGPADS
pins: 1, 2, 3, 4, 5, 6

## SPARKFUN-CONNECTORS_CONN_06NO_SILK_FEMALE_PTH
designator J?, comment Multi connection point. Often used as Generic Header-pin footprint for 0.1 inch spaced/style header connections    On any of the 0.1 inch spaced packages, you can populate with these:  Break Away Headers - Straight (PRT-00116)   Break Away Male Headers - Right Angle (PRT-00553)   Female Headers (PRT-00115)   Break Away Headers - Machine Pin (PRT-00117)   Break Away Female Headers - Swiss Machine Pin (PRT-00743)   Arduino Stackable Header - 6 Pin (PRT-09280)        For SCREWTERMINALS and SPRING TERMINALS visit here:  Screw Terimnals on SparkFun.com (5mm/3.5mm/2.54mm spacing)       This device is also useful as a general connection point to wire up your design to another part of your project. Our various solder wires solder well into these plated through hole pads.  Hook-Up Wire - Assortment (Stranded, 22 AWG) (PRT-11375)   Hook-Up Wire - Assortment (Solid Core, 22 AWG) (PRT-11367)   View the entire wire category on our website here
GateName_1: G$1; SymbolName_1: SPARKFUN-CONNECTORS_CONN_06; DeviceName: NO_SILK_FEMALE_PTH; PROD_ID: CONN-08437; LibraryName: AmbaSat-1v1-01-NO-solar; DeviceSetName: SPARKFUN-CONNECTORS_CONN_06; Package: SPARKFUN-CONNECTORS_1X06_NO_SILK
footprint SPARKFUN-CONNECTORS_1X06_NO_SILK
pins: 1, 2, 3, 4, 5, 6

## SPARKFUN-CONNECTORS_CONN_06NO_SILK_NO_POP
designator J?, comment Multi connection point. Often used as Generic Header-pin footprint for 0.1 inch spaced/style header connections    On any of the 0.1 inch spaced packages, you can populate with these:  Break Away Headers - Straight (PRT-00116)   Break Away Male Headers - Right Angle (PRT-00553)   Female Headers (PRT-00115)   Break Away Headers - Machine Pin (PRT-00117)   Break Away Female Headers - Swiss Machine Pin (PRT-00743)   Arduino Stackable Header - 6 Pin (PRT-09280)        For SCREWTERMINALS and SPRING TERMINALS visit here:  Screw Terimnals on SparkFun.com (5mm/3.5mm/2.54mm spacing)       This device is also useful as a general connection point to wire up your design to another part of your project. Our various solder wires solder well into these plated through hole pads.  Hook-Up Wire - Assortment (Stranded, 22 AWG) (PRT-11375)   Hook-Up Wire - Assortment (Solid Core, 22 AWG) (PRT-11367)   View the entire wire category on our website here
GateName_1: G$1; SymbolName_1: SPARKFUN-CONNECTORS_CONN_06; DeviceName: NO_SILK_NO_POP; LibraryName: AmbaSat-1v1-01-NO-solar; DeviceSetName: SPARKFUN-CONNECTORS_CONN_06; Package: SPARKFUN-CONNECTORS_1X06_NO_SILK
footprint SPARKFUN-CONNECTORS_1X06_NO_SILK
pins: 1, 2, 3, 4, 5, 6

## SPARKFUN-CONNECTORS_CONN_06POGOPIN_HOLES_ONLY
designator J?, comment Multi connection point. Often used as Generic Header-pin footprint for 0.1 inch spaced/style header connections    On any of the 0.1 inch spaced packages, you can populate with these:  Break Away Headers - Straight (PRT-00116)   Break Away Male Headers - Right Angle (PRT-00553)   Female Headers (PRT-00115)   Break Away Headers - Machine Pin (PRT-00117)   Break Away Female Headers - Swiss Machine Pin (PRT-00743)   Arduino Stackable Header - 6 Pin (PRT-09280)        For SCREWTERMINALS and SPRING TERMINALS visit here:  Screw Terimnals on SparkFun.com (5mm/3.5mm/2.54mm spacing)       This device is also useful as a general connection point to wire up your design to another part of your project. Our various solder wires solder well into these plated through hole pads.  Hook-Up Wire - Assortment (Stranded, 22 AWG) (PRT-11375)   Hook-Up Wire - Assortment (Solid Core, 22 AWG) (PRT-11367)   View the entire wire category on our website here
GateName_1: G$1; SymbolName_1: SPARKFUN-CONNECTORS_CONN_06; DeviceName: POGOPIN_HOLES_ONLY; PROD_ID: CONN-08437; LibraryName: AmbaSat-1v1-01-NO-solar; DeviceSetName: SPARKFUN-CONNECTORS_CONN_06; Package: SPARKFUN-CONNECTORS_1X06_HOLES_ONLY
footprint SPARKFUN-CONNECTORS_1X06_HOLES_ONLY
pins: 1, 2, 3, 4, 5, 6

## SPARKFUN-CONNECTORS_CONN_06POLAR
designator J?, comment Multi connection point. Often used as Generic Header-pin footprint for 0.1 inch spaced/style header connections    On any of the 0.1 inch spaced packages, you can populate with these:  Break Away Headers - Straight (PRT-00116)   Break Away Male Headers - Right Angle (PRT-00553)   Female Headers (PRT-00115)   Break Away Headers - Machine Pin (PRT-00117)   Break Away Female Headers - Swiss Machine Pin (PRT-00743)   Arduino Stackable Header - 6 Pin (PRT-09280)        For SCREWTERMINALS and SPRING TERMINALS visit here:  Screw Terimnals on SparkFun.com (5mm/3.5mm/2.54mm spacing)       This device is also useful as a general connection point to wire up your design to another part of your project. Our various solder wires solder well into these plated through hole pads.  Hook-Up Wire - Assortment (Stranded, 22 AWG) (PRT-11375)   Hook-Up Wire - Assortment (Solid Core, 22 AWG) (PRT-11367)   View the entire wire category on our website here
GateName_1: G$1; SymbolName_1: SPARKFUN-CONNECTORS_CONN_06; DeviceName: POLAR; LibraryName: AmbaSat-1v1-01-NO-solar; DeviceSetName: SPARKFUN-CONNECTORS_CONN_06; Package: SPARKFUN-CONNECTORS_MOLEX-1X6
footprint SPARKFUN-CONNECTORS_MOLEX-1X6
pins: 1, 2, 3, 4, 5, 6

## SPARKFUN-CONNECTORS_CONN_06POLAR_LOCK
designator J?, comment Multi connection point. Often used as Generic Header-pin footprint for 0.1 inch spaced/style header connections    On any of the 0.1 inch spaced packages, you can populate with these:  Break Away Headers - Straight (PRT-00116)   Break Away Male Headers - Right Angle (PRT-00553)   Female Headers (PRT-00115)   Break Away Headers - Machine Pin (PRT-00117)   Break Away Female Headers - Swiss Machine Pin (PRT-00743)   Arduino Stackable Header - 6 Pin (PRT-09280)        For SCREWTERMINALS and SPRING TERMINALS visit here:  Screw Terimnals on SparkFun.com (5mm/3.5mm/2.54mm spacing)       This device is also useful as a general connection point to wire up your design to another part of your project. Our various solder wires solder well into these plated through hole pads.  Hook-Up Wire - Assortment (Stranded, 22 AWG) (PRT-11375)   Hook-Up Wire - Assortment (Solid Core, 22 AWG) (PRT-11367)   View the entire wire category on our website here
GateName_1: G$1; SymbolName_1: SPARKFUN-CONNECTORS_CONN_06; DeviceName: POLAR_LOCK; LibraryName: AmbaSat-1v1-01-NO-solar; DeviceSetName: SPARKFUN-CONNECTORS_CONN_06; Package: SPARKFUN-CONNECTORS_MOLEX-1X6_LOCK
footprint SPARKFUN-CONNECTORS_MOLEX-1X6_LOCK
pins: 1, 2, 3, 4, 5, 6

## SPARKFUN-CONNECTORS_CONN_06RA
designator J?, comment Multi connection point. Often used as Generic Header-pin footprint for 0.1 inch spaced/style header connections    On any of the 0.1 inch spaced packages, you can populate with these:  Break Away Headers - Straight (PRT-00116)   Break Away Male Headers - Right Angle (PRT-00553)   Female Headers (PRT-00115)   Break Away Headers - Machine Pin (PRT-00117)   Break Away Female Headers - Swiss Machine Pin (PRT-00743)   Arduino Stackable Header - 6 Pin (PRT-09280)        For SCREWTERMINALS and SPRING TERMINALS visit here:  Screw Terimnals on SparkFun.com (5mm/3.5mm/2.54mm spacing)       This device is also useful as a general connection point to wire up your design to another part of your project. Our various solder wires solder well into these plated through hole pads.  Hook-Up Wire - Assortment (Stranded, 22 AWG) (PRT-11375)   Hook-Up Wire - Assortment (Solid Core, 22 AWG) (PRT-11367)   View the entire wire category on our website here
GateName_1: G$1; SymbolName_1: SPARKFUN-CONNECTORS_CONN_06; DeviceName: RA; LibraryName: AmbaSat-1v1-01-NO-solar; DeviceSetName: SPARKFUN-CONNECTORS_CONN_06; Package: SPARKFUN-CONNECTORS_MOLEX-1X6-RA
footprint SPARKFUN-CONNECTORS_MOLEX-1X6-RA
pins: 1, 2, 3, 4, 5, 6

## SPARKFUN-CONNECTORS_CONN_06RA_LOCK
designator J?, comment Multi connection point. Often used as Generic Header-pin footprint for 0.1 inch spaced/style header connections    On any of the 0.1 inch spaced packages, you can populate with these:  Break Away Headers - Straight (PRT-00116)   Break Away Male Headers - Right Angle (PRT-00553)   Female Headers (PRT-00115)   Break Away Headers - Machine Pin (PRT-00117)   Break Away Female Headers - Swiss Machine Pin (PRT-00743)   Arduino Stackable Header - 6 Pin (PRT-09280)        For SCREWTERMINALS and SPRING TERMINALS visit here:  Screw Terimnals on SparkFun.com (5mm/3.5mm/2.54mm spacing)       This device is also useful as a general connection point to wire up your design to another part of your project. Our various solder wires solder well into these plated through hole pads.  Hook-Up Wire - Assortment (Stranded, 22 AWG) (PRT-11375)   Hook-Up Wire - Assortment (Solid Core, 22 AWG) (PRT-11367)   View the entire wire category on our website here
GateName_1: G$1; SymbolName_1: SPARKFUN-CONNECTORS_CONN_06; DeviceName: RA_LOCK; LibraryName: AmbaSat-1v1-01-NO-solar; DeviceSetName: SPARKFUN-CONNECTORS_CONN_06; Package: SPARKFUN-CONNECTORS_MOLEX_1X6_RA_LOCK
footprint SPARKFUN-CONNECTORS_MOLEX_1X6_RA_LOCK
pins: 1, 2, 3, 4, 5, 6

## SPARKFUN-CONNECTORS_CONN_06SILK_FEMALE_PTH
designator J?, comment Multi connection point. Often used as Generic Header-pin footprint for 0.1 inch spaced/style header connections    On any of the 0.1 inch spaced packages, you can populate with these:  Break Away Headers - Straight (PRT-00116)   Break Away Male Headers - Right Angle (PRT-00553)   Female Headers (PRT-00115)   Break Away Headers - Machine Pin (PRT-00117)   Break Away Female Headers - Swiss Machine Pin (PRT-00743)   Arduino Stackable Header - 6 Pin (PRT-09280)        For SCREWTERMINALS and SPRING TERMINALS visit here:  Screw Terimnals on SparkFun.com (5mm/3.5mm/2.54mm spacing)       This device is also useful as a general connection point to wire up your design to another part of your project. Our various solder wires solder well into these plated through hole pads.  Hook-Up Wire - Assortment (Stranded, 22 AWG) (PRT-11375)   Hook-Up Wire - Assortment (Solid Core, 22 AWG) (PRT-11367)   View the entire wire category on our website here
GateName_1: G$1; SymbolName_1: SPARKFUN-CONNECTORS_CONN_06; DeviceName: SILK_FEMALE_PTH; PROD_ID: CONN-08437; LibraryName: AmbaSat-1v1-01-NO-solar; DeviceSetName: SPARKFUN-CONNECTORS_CONN_06; Package: SPARKFUN-CONNECTORS_1X06
footprint SPARKFUN-CONNECTORS_1X06
pins: 1, 2, 3, 4, 5, 6

## SPARKFUN-CONNECTORS_CONN_06SMD
designator J?, comment Multi connection point. Often used as Generic Header-pin footprint for 0.1 inch spaced/style header connections    On any of the 0.1 inch spaced packages, you can populate with these:  Break Away Headers - Straight (PRT-00116)   Break Away Male Headers - Right Angle (PRT-00553)   Female Headers (PRT-00115)   Break Away Headers - Machine Pin (PRT-00117)   Break Away Female Headers - Swiss Machine Pin (PRT-00743)   Arduino Stackable Header - 6 Pin (PRT-09280)        For SCREWTERMINALS and SPRING TERMINALS visit here:  Screw Terimnals on SparkFun.com (5mm/3.5mm/2.54mm spacing)       This device is also useful as a general connection point to wire up your design to another part of your project. Our various solder wires solder well into these plated through hole pads.  Hook-Up Wire - Assortment (Stranded, 22 AWG) (PRT-11375)   Hook-Up Wire - Assortment (Solid Core, 22 AWG) (PRT-11367)   View the entire wire category on our website here
GateName_1: G$1; SymbolName_1: SPARKFUN-CONNECTORS_CONN_06; DeviceName: SMD; PROD_ID: CONN-08971; LibraryName: AmbaSat-1v1-01-NO-solar; DeviceSetName: SPARKFUN-CONNECTORS_CONN_06; Package: SPARKFUN-CONNECTORS_1X06-SMD_RA_MALE
footprint SPARKFUN-CONNECTORS_1X06-SMD_RA_MALE
pins: 1, 2, 3, 4, 5, 6

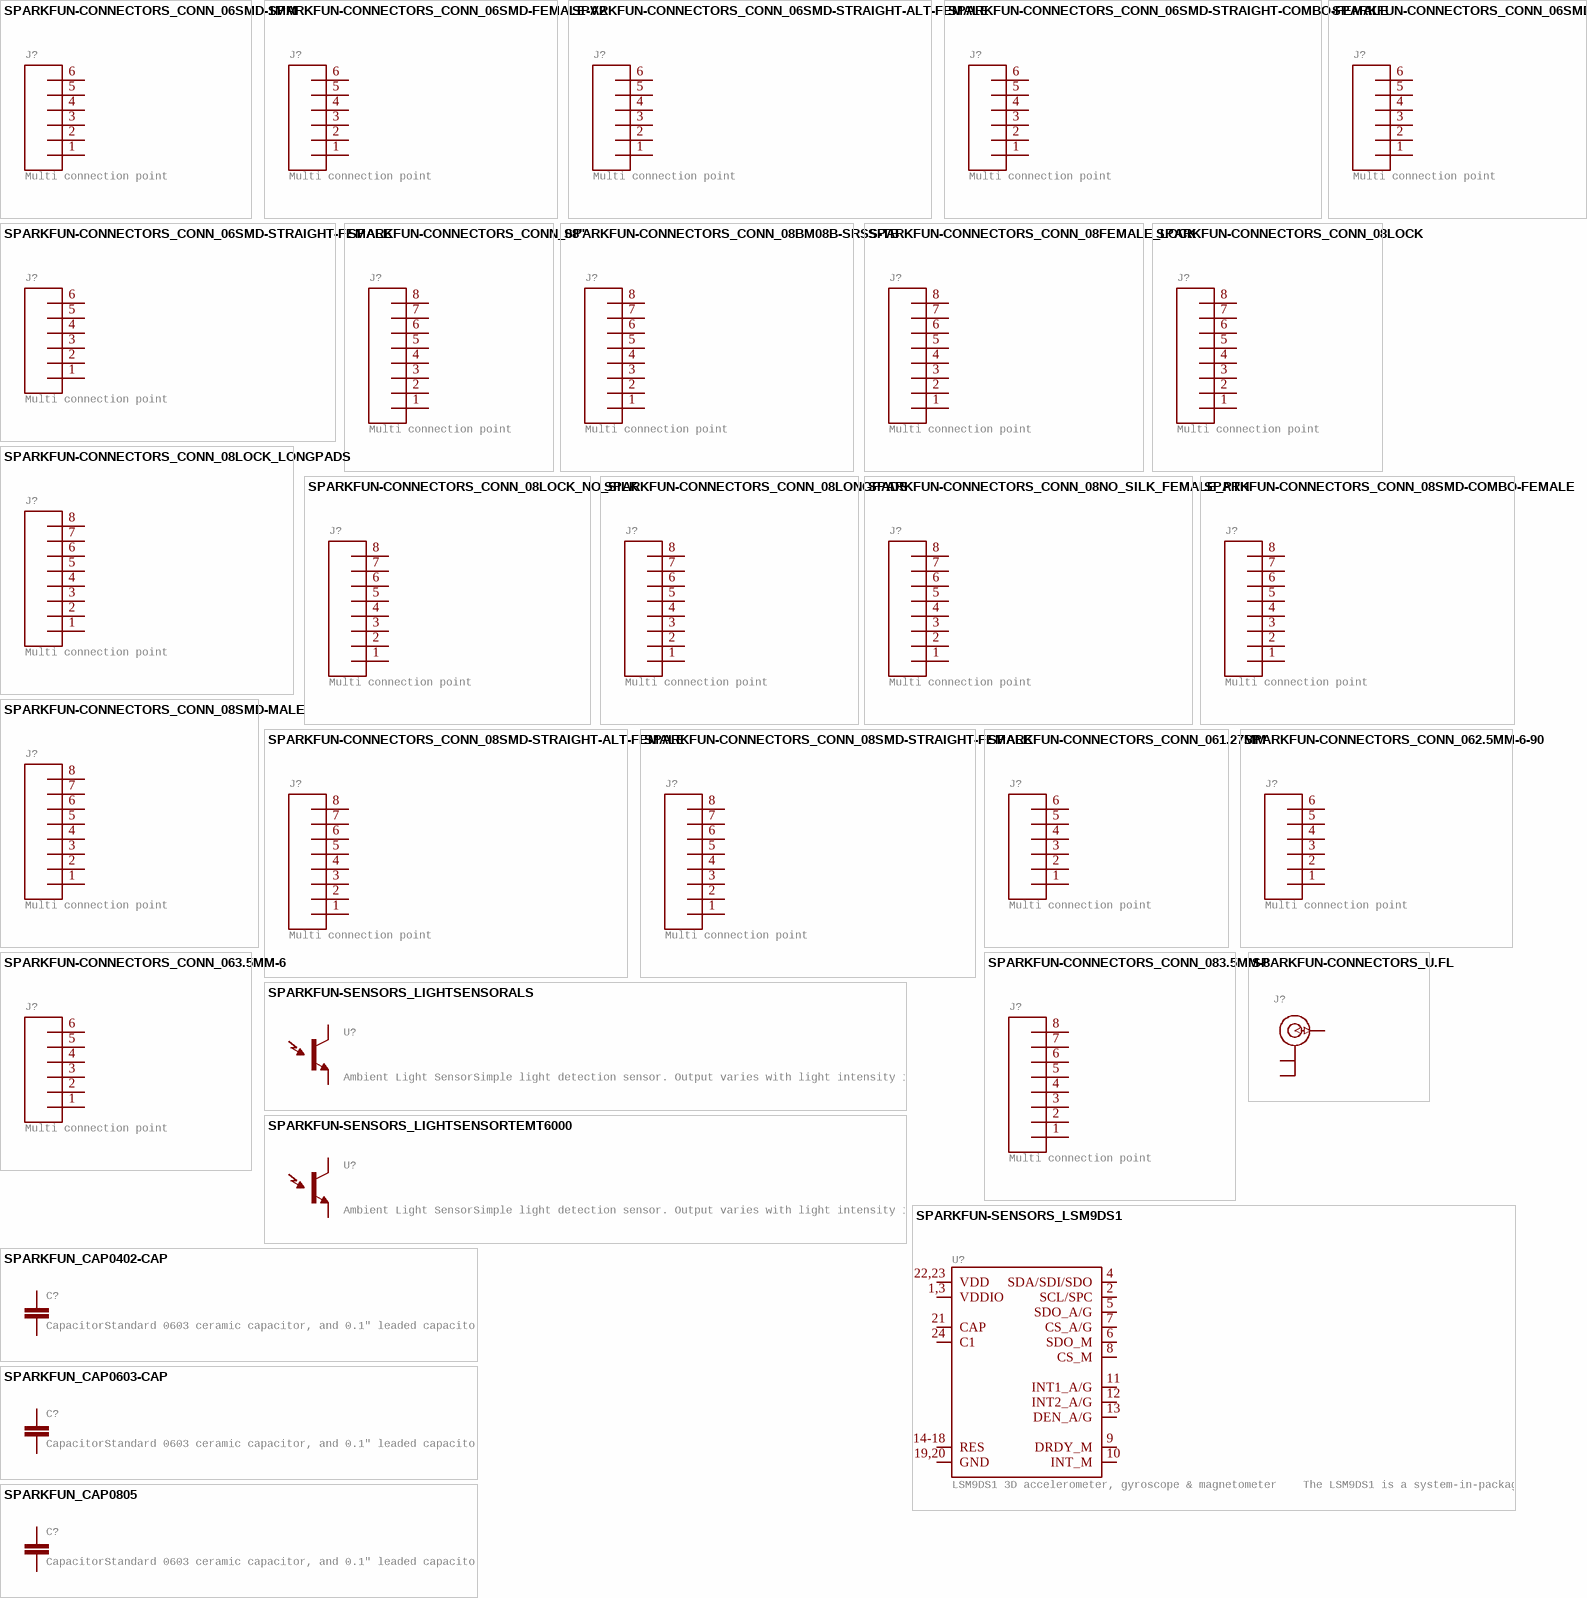
[diagram p8: symbols SPARKFUN-CONNECTORS_CONN_06SMD-1MM to SPARKFUN_CAP0805]

## SPARKFUN-CONNECTORS_CONN_06SMD-1MM
designator J?, comment Multi connection point. Often used as Generic Header-pin footprint for 0.1 inch spaced/style header connections    On any of the 0.1 inch spaced packages, you can populate with these:  Break Away Headers - Straight (PRT-00116)   Break Away Male Headers - Right Angle (PRT-00553)   Female Headers (PRT-00115)   Break Away Headers - Machine Pin (PRT-00117)   Break Away Female Headers - Swiss Machine Pin (PRT-00743)   Arduino Stackable Header - 6 Pin (PRT-09280)        For SCREWTERMINALS and SPRING TERMINALS visit here:  Screw Terimnals on SparkFun.com (5mm/3.5mm/2.54mm spacing)       This device is also useful as a general connection point to wire up your design to another part of your project. Our various solder wires solder well into these plated through hole pads.  Hook-Up Wire - Assortment (Stranded, 22 AWG) (PRT-11375)   Hook-Up Wire - Assortment (Solid Core, 22 AWG) (PRT-11367)   View the entire wire category on our website here
GateName_1: G$1; SymbolName_1: SPARKFUN-CONNECTORS_CONN_06; DeviceName: SMD-1MM; PROD_ID: CONN-08249; SF_ID: GPS-00579; LibraryName: AmbaSat-1v1-01-NO-solar; DeviceSetName: SPARKFUN-CONNECTORS_CONN_06; Package: SPARKFUN-CONNECTORS_1X06-1MM
footprint SPARKFUN-CONNECTORS_1X06-1MM
pins: 1, 2, 3, 4, 5, 6